# Altium schematic symbol library Schlib1.SchLib: 7 symbols
Pins are listed as number, name and electrical type; pins without a type are passive.

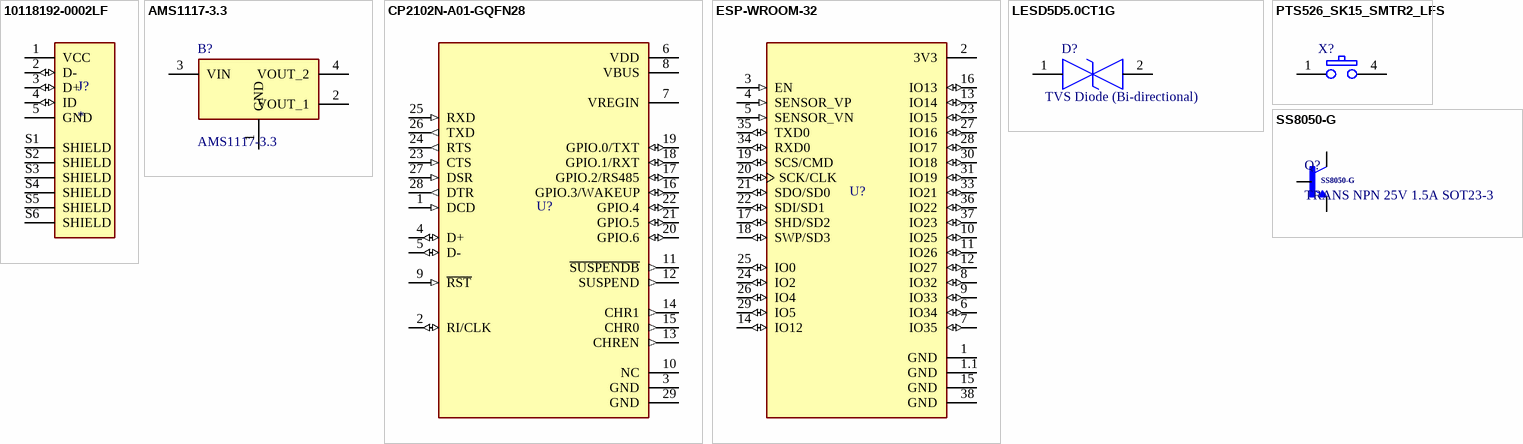
[diagram p0: symbols 10118192-0002LF to SS8050-G]

## 10118192-0002LF
designator J?
Micro USB 2.0, Input Output Connectors, B TYPE RECEPTACLE without flange; Part-Number: 10118192-0002LF; Digikey-Link: https://www.digikey.com/en/products/detail/amphenol-cs-fci/10118192-0002LF/6817756
footprint 10118192-0002LF (MICRO USB CONN RCPT USB2.0 MICRO B SMD R/A)
pins: 1 VCC (power), 2 D- (io), 3 D+ (io), 4 ID (io), 5 GND (power), S1 SHIELD, S2 SHIELD, S3 SHIELD, S4 SHIELD, S5 SHIELD, S6 SHIELD

## AMS1117-3.3
designator B?
1A LOW DROPOUT VOLTAGE REGULATOR, SOT-223; Part-Number: AMS1117-3.3; Digikey-Link: https://www.digikey.com/en/products/detail/evvo/AMS1117-3-3/22482148
pins: 1 GND, 2 VOUT_1, 3 VIN, 4 VOUT_2

## CP2102N-A01-GQFN28
designator U?, comment USB Bridge, USB to UART  (value not drawn)
USB Bridge, USB to UART USB 2.0 UART Interface 28-QFN (5x5); Part-Number: CP2102N-A01-GQFN28; Digikey-Link: https://www.digikey.com/en/products/detail/silicon-labs/CP2102N-A01-GQFN28/6012519
footprint CP2102N-A01-GQFN28 (IC BRIDGE USB TO UART 28QFN)
pins: 1 DCD (in), 2 RI/CLK (io), 3 GND (power), 4 D+ (io), 5 D- (io), 6 VDD (power), 7 VREGIN (power), 8 VBUS (power), 9 ~{RST} (in), 10 NC, 11 ~{SUSPENDB} (out), 12 SUSPEND (out), 13 CHREN (out), 14 CHR1 (out), 15 CHR0 (out), 16 GPIO.3/WAKEUP (io), 17 GPIO.2/RS485 (io), 18 GPIO.1/RXT (io), 19 GPIO.0/TXT (io), 20 GPIO.6 (io), 21 GPIO.5 (io), 22 GPIO.4 (io), 23 CTS (in), 24 RTS (out), 25 RXD (in), 26 TXD (out), 27 DSR (in), 28 DTR (out), 29 GND (power)

## ESP-WROOM-32
designator U?, comment RF TXRX MODULE WIFI SMD*  (value not drawn)
WiFi 802.11b/g/n/d/e/i Transceiver Module 2.4GHz Surface Mount; Part-Number: ESP-WROOM-32; Digikey-Link: https://www.digikey.com/en/products/detail/espressif-systems/ESP32-WROOM-32-N4/8544298
footprint ESP-WROOM-32 (RF TXRX MODULE WIFI SMD)
pins: 1 GND (power), 1.1 GND (power), 2 3V3 (power), 3 EN (in), 4 SENSOR_VP (in), 5 SENSOR_VN (in), 6 IO34 (io), 7 IO35 (io), 8 IO32 (io), 9 IO33 (io), 10 IO25 (io), 11 IO26 (io), 12 IO27 (io), 13 IO14 (io), 14 IO12 (io), 15 GND (power), 16 IO13 (io), 17 SHD/SD2 (io), 18 SWP/SD3 (io), 19 SCS/CMD (io), 20 SCK/CLK (io), 21 SDO/SD0 (io), 22 SDI/SD1 (io), 23 IO15 (io), 24 IO2 (io), 25 IO0 (io), 26 IO4 (io), 27 IO16 (io), 28 IO17 (io), 29 IO5 (io), 30 IO18 (io), 31 IO19 (io), 33 IO21 (io), 34 RXD0 (io), 35 TXD0 (io), 36 IO22 (io), 37 IO23 (io), 38 GND (power)

## LESD5D5.0CT1G
designator D?, comment TVS Diode (Bi-directional)
Transient Voltage Suppressors for ESD Protection; Part-Number: LESD5D5.0CT1G; Digikey-Link: https://www.lcsc.com/product-detail/New-Arrivals_Leshan-Radio-LESD5D5-0CT1G_C383211.html
footprint LESD5D50CT1G
pins: 1, 2

## PTS526_SK15_SMTR2_LFS
designator X?, comment TS526_SK15_SMTR2_LFS  (value not drawn)
Tact 5.2 x 5.2, 1.5 mm H, 260gf, G leads, No ground pin, metal actuator; Manufacturer_Name: C & K COMPONENTS; Manufacturer_Part_Number: PTS526 SK15 SMTR2 LFS; Geometry.Height: 1.65mm; Mouser Part Number: 611-PTS526SK15SMR2L; Mouser Price/Stock: https://www.mouser.co.uk/ProductDetail/CK/PTS526-SK15-SMTR2-LFS?qs=UXgszm6BlbF5Ezp94JAQtw%3D%3D; Arrow Part Number: PTS526 SK15 SMTR2 LFS; Arrow Price/Stock: https://www.arrow.com/en/products/pts526-sk15-smtr2-lfs/ck?utm_currency=USD&region=nac; Datasheet Link: https://www.ckswitches.com/media/2780/pts526.pdf
footprint PTS526 SK15 SMTR2 LFS (SWITCH TACTILE SPST-NO 0.05A 12V)
pins: 1 COM_1, 2 COM_2, 3 NO_1, 4 NO_2

## SS8050-G
designator Q?, comment TRANS NPN 25V 1.5A SOT23-3
Bipolar (BJT) Transistor NPN 25 V 1.5 A 100MHz 300 mW Surface Mount SOT-23-3; Part-Number: SS8050-G; Digikey-Link: https://www.digikey.com/en/products/detail/comchip-technology/SS8050-G/6138901?s=N4IgTCBcDaIMpwBwAYCsyC0BxEBdAvkA
footprint SS8050-G (TRANS NPN 25V 1.5A SOT23-3)
pins: 1 B, 2 E, 3 C